# EAGLE library part JTAG (library MICROCONTROLLER)
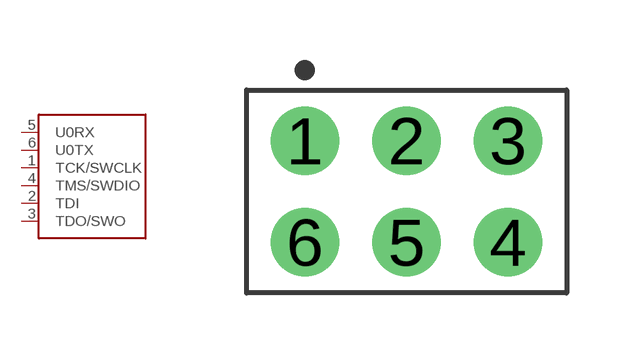
[diagram p5: symbol with the pads of HDRV6W64P254_2X3_800X508X838B; footprint HDRV6W64P254_2X3_800X508X838B]

Designator prefix -

## JTAG  [HDRV6W64P254_2X3_800X508X838B]
1  TCK/SWCLK
2  TDI
3  TDO/SWO
4  TMS/SWDIO
5  U0RX
6  U0TX

## Footprint HDRV6W64P254_2X3_800X508X838B (pad centres in mm)
Double-row, 6-pin Pin Header (Male) Straight, 2.54 mm (0.10 in) row pitch, 2.54 mm (0.10 in) col pitch, 5.84 mm mating length, 8.00 X 5.08 X 8.38 mm body Double-row (2X3), 6-pin Pin Header (Male) Straight package with 2.54 mm (0.10 in) row pitch, 2.54 mm (0.10 in) col pitch, 0.64 mm lead width, 3.00 mm tail length and 5.84 mm mating length with overall size 8.00 X 5.08 X 8.38 mm, pin pattern - clockwise from top left
drill 0.889 pad 1.705: 1 0,0; 2 2.54,0; 3 5.08,0; 4 5.08,-2.54; 5 2.54,-2.54; 6 0,-2.54